# Altium schematic symbol library UCC28220D.SchLib: 1 symbol
Pins are listed as number, name and electrical type; pins without a type are passive.

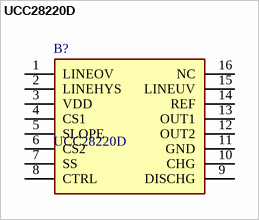
[diagram p0: symbol UCC28220D]

## UCC28220D
designator B?
Dual Interleaved PWM Controller with Programmable Max Duty Cycle; Manufacturer_Name: Texas Instruments; Geometry.Height: 1.75mm; Mouser Part Number: 595-UCC28220D; Mouser Price/Stock: https://www.mouser.co.uk/ProductDetail/Texas-Instruments/UCC28220D/?qs=eJkN62t4xTVBY%2FGqaPYojw%3D%3D; Manufacturer_Part_Number: UCC28220D; Datasheet Link: http://www.ti.com/lit/gpn/ucc28220
footprint UCC28220D
pins: 1 LINEOV, 2 LINEHYS, 3 VDD, 4 CS1, 5 SLOPE, 6 CS2, 7 SS, 8 CTRL, 9 DISCHG, 10 CHG, 11 GND, 12 OUT2, 13 OUT1, 14 REF, 15 LINEUV, 16 NC